# Altium schematic symbol library Raspberry_Pi_Zero_W__v1.3_.SchLib: 1 symbol
Pins are listed as number, name and electrical type; pins without a type are passive.

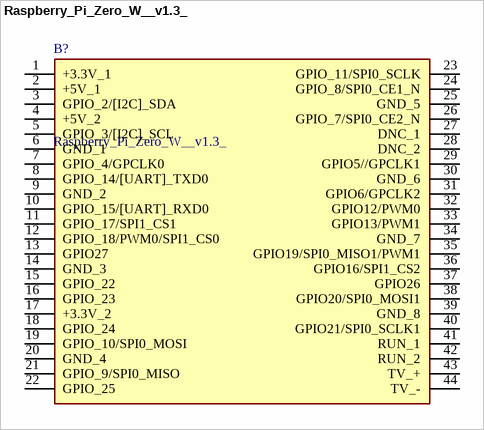
[diagram p0: symbol Raspberry_Pi_Zero_W__v1.3_]

## Raspberry_Pi_Zero_W__v1.3_
designator B?
Raspberry Pi Zero W (v1.3) Single-board Computers; Manufacturer_Name: RASPBERRY-PI; Manufacturer_Part_Number: Raspberry Pi Zero W (v1.3); Mouser Part Number: *; Mouser Price/Stock: *; Arrow Part Number: *; Arrow Price/Stock: *; Datasheet Link: https://cdn.sparkfun.com/assets/learn_tutorials/6/7/6/PiZero_1.pdf
footprint RASPBERRYPIZEROWV13
pins: 1 +3.3V_1, 2 +5V_1, 3 GPIO_2/[I2C]_SDA, 4 +5V_2, 5 GPIO_3/[I2C]_SCL, 6 GND_1, 7 GPIO_4/GPCLK0, 8 GPIO_14/[UART]_TXD0, 9 GND_2, 10 GPIO_15/[UART]_RXD0, 11 GPIO_17/SPI1_CS1, 12 GPIO_18/PWM0/SPI1_CS0, 13 GPIO27, 14 GND_3, 15 GPIO_22, 16 GPIO_23, 17 +3.3V_2, 18 GPIO_24, 19 GPIO_10/SPI0_MOSI, 20 GND_4, 21 GPIO_9/SPI0_MISO, 22 GPIO_25, 23 GPIO_11/SPI0_SCLK, 24 GPIO_8/SPI0_CE1_N, 25 GND_5, 26 GPIO_7/SPI0_CE2_N, 27 DNC_1, 28 DNC_2, 29 GPIO5//GPCLK1, 30 GND_6, 31 GPIO6/GPCLK2, 32 GPIO12/PWM0, 33 GPIO13/PWM1, 34 GND_7, 35 GPIO19/SPI0_MISO1/PWM1, 36 GPIO16/SPI1_CS2, 37 GPIO26, 38 GPIO20/SPI0_MOSI1, 39 GND_8, 40 GPIO21/SPI0_SCLK1, 41 RUN_1, 42 RUN_2, 43 TV_+, 44 TV_-